# Altium footprint library 1 inch LED.PcbLib: 1 footprints
Each footprint in its own frame and in the unit in brackets; x right, y up, seen from the top. Pads: shape width x height; smd on the part's side, far side on the other; paste and mask are expansions set on the pad; w line width, h text height; cw(c..) or ccw(c..) is an arc to the next point about the centre after c.
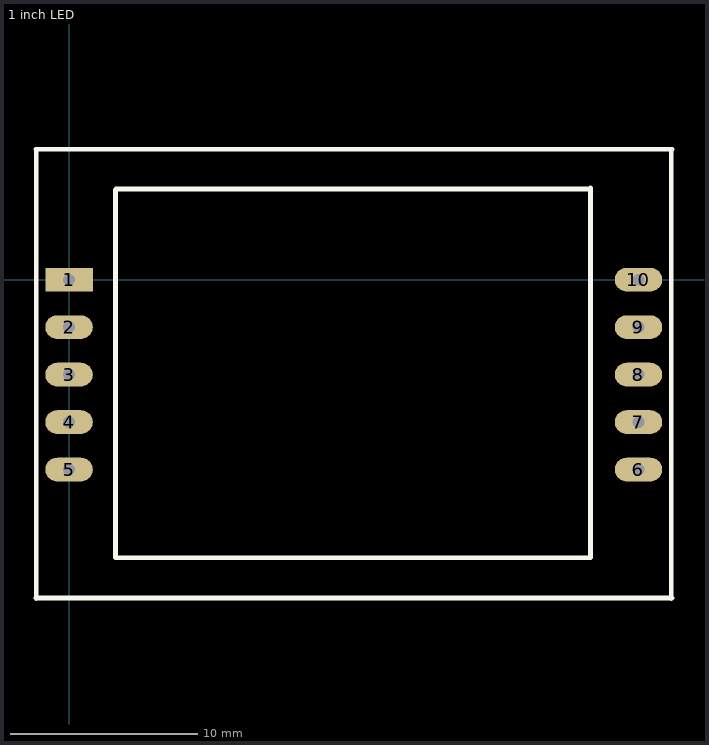
[diagram p0: the footprint, top view; thin cyan lines are the x and y axes]

## 1 inch LED [mil]
pads (10):
  rect 100x50 hole 25: 1(0,0)
  oval 100x50 hole 25: 2(0,-100) 3(0,-200) 4(0,-300) 5(0,-400) 6(1200,-400) 7(1200,-300) 8(1200,-200) 9(1200,-100) 10(1200,0)
Top Overlay:
  lines w10: -70,-671 1271,-671 ; -70,275 1271,275 ; -69.29,-672.44 -69.29,272.44 ; 98,189 98,-586 1099,-586 1099,194 ; 99.02,191 1099,191 ; 1269.29,-672.44 1269.29,272.44